# Altium footprint library NHD-0216KZW-AB5.PcbLib: 1 footprints
Each footprint in its own frame and in the unit in brackets; x right, y up, seen from the top. Pads: shape width x height; smd on the part's side, far side on the other; paste and mask are expansions set on the pad; w line width, h text height; cw(c..) or ccw(c..) is an arc to the next point about the centre after c.
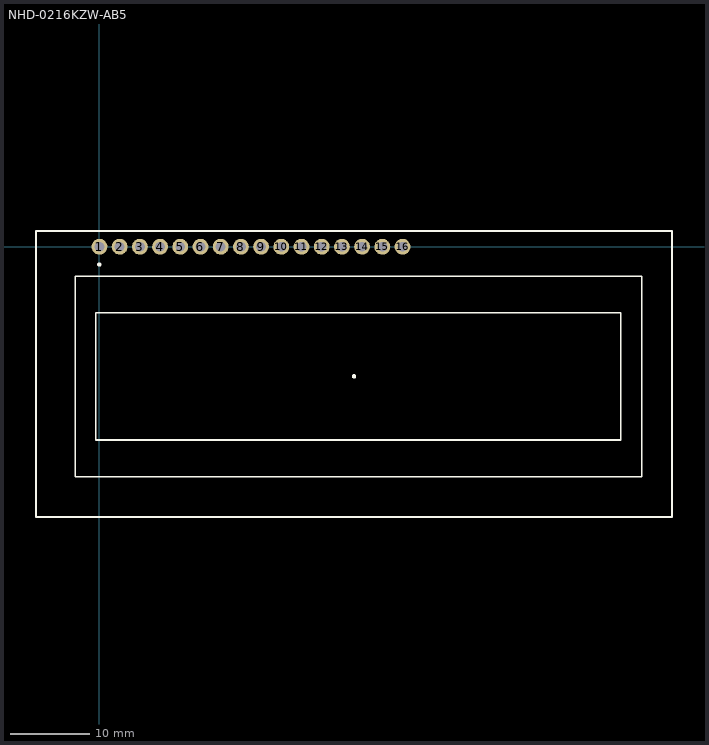
[diagram p0: the footprint, top view; thin cyan lines are the x and y axes]

## NHD-0216KZW-AB5 [mm] "2x16 OLED character display"
height 10
pads (16):
  round 2 hole 1.25: 1(0,0) 2(2.54,0) 3(5.08,0) 4(7.62,0) 5(10.16,0) 6(12.7,0) 7(15.24,0) 8(17.78,0) 9(20.32,0) 10(22.86,0) 11(25.4,0) 12(27.94,0) 13(30.48,0) 14(33.02,0) 15(35.56,0) 16(38.1,0)
Top Overlay:
  circle w0.254: c32,-16.3 r0.148
  circle w0.254: c-0.021,-2.235 r0.148
  lines w0.2: -0.45,-8.306 -0.45,-24.3 65.55,-24.3 65.55,-8.3 ; 65.55,-8.3 -0.45,-8.3 65.55,-8.3 ; -3.05,-28.9 -3.05,-3.7 68.15,-3.7 68.15,-28.9 -3.05,-28.9
  lines w0.254: -8,-34 -8,2 72,2 72,-34 -8,-34
3D body: height 10, standoff 0, extent -8.001,-22.606 17.983,-4.115
3D body: height 10, standoff 0, extent 55.651,-29.921 61.646,-25.908
3D body: height 10, standoff 0, extent 29.362,-29.921 35.357,-25.908
3D body: height 10, standoff 0, extent 3.454,-29.921 9.449,-25.908
3D body: height 10, standoff 0, extent 3.454,-6.68 9.449,-2.667
3D body: height 10, standoff 0, extent 29.362,-6.68 35.357,-2.667
3D body: height 10, standoff 0, extent 55.651,-6.68 61.646,-2.667
3D body: height 10, standoff 0, extent -1.524,-1.524 39.624,1.524
3D body: height 10, standoff 2.5, extent -8.127,-34.127 72.127,2.127